# EAGLE library part FT232R (library 000_ICS)
Source: http://www.ftdichip.com/Documents/DataSheets/DS_FT232R_v104.pdf
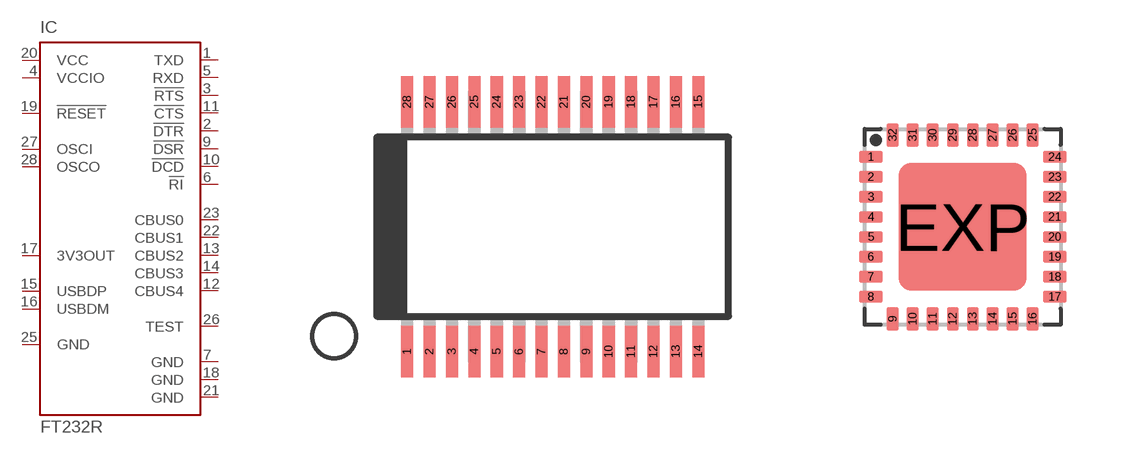
[diagram p15: symbol with the pads of SSOP28; footprints SSOP28, QFN32]

Designator prefix IC

## FT232RL (MPN: FT232RL; OC_FARNELL: 1146032; OC_NEWARK: 91K9918)  [SSOP28]
1  TXD  out
2  !DTR  out
3  !RTS  out
4  VCCIO  pwr
5  RXD  in
6  !RI  in
7  GND  pwr
9  !DSR  in
10  !DCD  in
11  !CTS  in
12  CBUS4
13  CBUS2
14  CBUS3
15  USBDP
16  USBDM
17  3V3OUT  out
18  GND  pwr
19  !RESET  in
20  VCC  pwr
21  GND  pwr
22  CBUS1
23  CBUS0
25  GND  pwr
26  TEST  in
27  OSCI  in
28  OSCO  out

## FT232RQ (MPN: FT232RQ; OC_FARNELL: 1146033; OC_NEWARK: 91K9919)  [QFN32]
1  VCCIO  pwr
2  RXD  in
3  !RI  in
4  GND  pwr
6  !DSR  in
7  !DCD  in
8  !CTS  in
9  CBUS4
10  CBUS2
11  CBUS3
14  USBDP
15  USBDM
16  3V3OUT  out
17  GND  pwr
18  !RESET  in
19  VCC  pwr
20  GND  pwr
21  CBUS1
22  CBUS0
24  GND  pwr
26  TEST  in
27  OSCI  in
28  OSCO  out
30  TXD  out
31  !DTR  out
32  !RTS  out

## Footprint SSOP28 (pad centres in mm)
Shrink Small Outline Package package type SS
smd 0.35 x 1.5: 1 -4.225,-3.625; 2 -3.575,-3.625; 3 -2.925,-3.625; 4 -2.275,-3.625; 5 -1.625,-3.625; 6 -0.975,-3.625; 7 -0.325,-3.625; 8 0.325,-3.625; 9 0.975,-3.625; 10 1.625,-3.625; 11 2.275,-3.625; 12 2.925,-3.625; 13 3.575,-3.625; 14 4.225,-3.625; 15 4.225,3.625; 16 3.575,3.625; 17 2.925,3.625; 18 2.275,3.625; 19 1.625,3.625; 20 0.975,3.625; 21 0.325,3.625; 22 -0.325,3.625; 23 -0.975,3.625; 24 -1.625,3.625; 25 -2.275,3.625; 26 -2.925,3.625; 27 -3.575,3.625; 28 -4.225,3.625

## Footprint QFN32 (pad centres in mm)
QFN 32 Source: http://www.ftdichip.com/Documents/DataSheets/DS_FT232R_v104.pdf
smd 0.6 x 0.3: 1 -2.3,1.75; 2 -2.3,1.25; 3 -2.3,0.75; 4 -2.3,0.25; 5 -2.3,-0.25; 6 -2.3,-0.75; 7 -2.3,-1.25; 8 -2.3,-1.75; 17 2.3,-1.75; 18 2.3,-1.25; 19 2.3,-0.75; 20 2.3,-0.25; 21 2.3,0.25; 22 2.3,0.75; 23 2.3,1.25; 24 2.3,1.75
smd 0.3 x 0.6: 9 -1.75,-2.3; 10 -1.25,-2.3; 11 -0.75,-2.3; 12 -0.25,-2.3; 13 0.25,-2.3; 14 0.75,-2.3; 15 1.25,-2.3; 16 1.75,-2.3; 25 1.75,2.3; 26 1.25,2.3; 27 0.75,2.3; 28 0.25,2.3; 29 -0.25,2.3; 30 -0.75,2.3; 31 -1.25,2.3; 32 -1.75,2.3
smd 3.2 x 3.2: EXP 0,0